# EAGLE library part LITHIUM_CHARGER_2A (library MIA_LIBRARY-2-2)
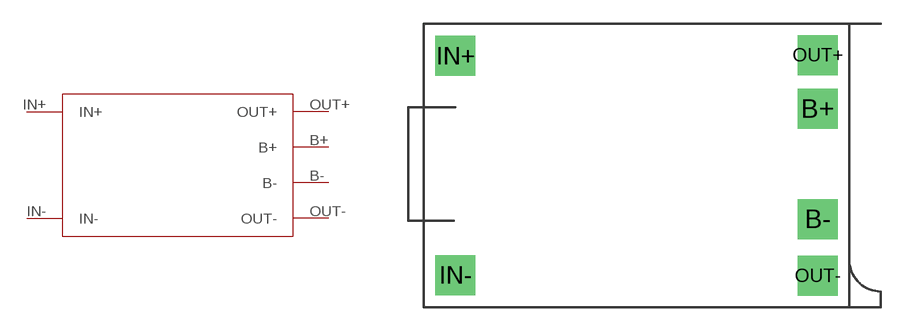
[diagram p69: symbol with the pads of LITHIUM-CHARGER-1A; footprint LITHIUM-CHARGER-1A]

Designator prefix -

## LITHIUM_CHARGER_2A  [LITHIUM-CHARGER-1A]
B+  B+
B-  B-
IN+  IN+
IN-  IN-
OUT+  OUT+
OUT-  OUT-

## Footprint LITHIUM-CHARGER-1A (pad centres in mm)
drill 0.85 pad 2.54 square: B+ -1,11.6; B- -1,4.6; IN+ -24,14.954; IN- -24,1.046; OUT+ -1,15; OUT- -1,1